# Altium schematic symbol library IC.SchLib: 5 symbols
Pins are listed as number, name and electrical type; pins without a type are passive.

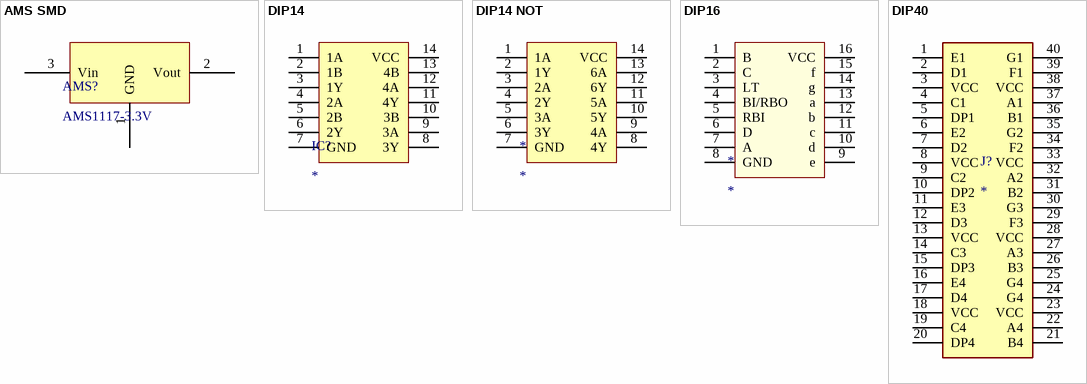
[diagram p0: symbols AMS SMD to DIP40]

## AMS SMD
designator AMS?, comment AMS1117-3.3V
footprint SOT-223
pins: 1 GND, 2 Vout, 3 Vin

## DIP14
designator IC?
footprint DIP14
pins: 1 1A, 2 1B, 3 1Y, 4 2A, 5 2B, 6 2Y, 7 GND, 8 3Y, 9 3A, 10 3B, 11 4Y, 12 4A, 13 4B, 14 VCC

## DIP14 NOT
designator *
footprint DIP14
pins: 1 1A, 2 1Y, 3 2A, 4 2Y, 5 3A, 6 3Y, 7 GND, 8 4Y, 9 4A, 10 5Y, 11 5A, 12 6Y, 13 6A, 14 VCC

## DIP16
designator *
footprint DIP16
pins: 1 B, 2 C, 3 LT, 4 BI/RBO, 5 RBI, 6 D, 7 A, 8 GND, 9 e, 10 d, 11 c, 12 b, 13 a, 14 g, 15 f, 16 VCC

## DIP40
designator J?
Row Spacing 2.54 mm Pitch Through Hole Dip Socket; MP: 3-1571552-2; Package: None; Price: None; Value: *; Availability: Unavailable
footprint DIP40
pins: 1 E1, 2 D1, 3 VCC, 4 C1, 5 DP1, 6 E2, 7 D2, 8 VCC, 9 C2, 10 DP2, 11 E3, 12 D3, 13 VCC, 14 C3, 15 DP3, 16 E4, 17 D4, 18 VCC, 19 C4, 20 DP4, 21 B4, 22 A4, 23 VCC, 24 G4, 25 G4, 26 B3, 27 A3, 28 VCC, 29 F3, 30 G3, 31 B2, 32 A2, 33 VCC, 34 F2, 35 G2, 36 B1, 37 A1, 38 VCC, 39 F1, 40 G1